# EAGLE library part TD-114-G-A (library SAMTEC-Txx_By_element14_Batch_1)
CONN RECEPTACLE, 2.54MM, THT VERT, 28WAY
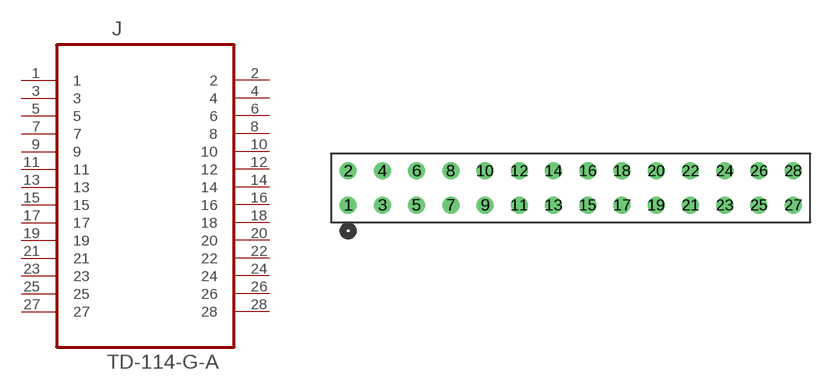
[diagram p22: symbol with the pads of SAMTEC_TD-114-G-A; footprint SAMTEC_TD-114-G-A]

Designator prefix J

## TD-114-G-A (MPN: TD-114-G-A; OC_FARNELL: 1668427; OC_NEWARK: 12P0252; PACKAGE: RECEPTACLE, 2.54MM, THT VERT,28WAY; SUPPLIER: SAMTEC)  [SAMTEC_TD-114-G-A]
1  1  pas
2  2  pas
3  3  pas
4  4  pas
5  5  pas
6  6  pas
7  7  pas
8  8  pas
9  9  pas
10  10  pas
11  11  pas
12  12  pas
13  13  pas
14  14  pas
15  15  pas
16  16  pas
17  17  pas
18  18  pas
19  19  pas
20  20  pas
21  21  pas
22  22  pas
23  23  pas
24  24  pas
25  25  pas
26  26  pas
27  27  pas
28  28  pas

## Footprint SAMTEC_TD-114-G-A (pad centres in mm)
drill 0.762: 1 -33.02,-2.54; 2 -33.02,0; 3 -30.48,-2.54; 4 -30.48,0; 5 -27.94,-2.54; 6 -27.94,0; 7 -25.4,-2.54; 8 -25.4,0; 9 -22.86,-2.54; 10 -22.86,0; 11 -20.32,-2.54; 12 -20.32,0; 13 -17.78,-2.54; 14 -17.78,0; 15 -15.24,-2.54; 16 -15.24,0; 17 -12.7,-2.54; 18 -12.7,0; 19 -10.16,-2.54; 20 -10.16,0; 21 -7.62,-2.54; 22 -7.62,0; 23 -5.08,-2.54; 24 -5.08,0; 25 -2.54,-2.54; 26 -2.54,0; 27 0,-2.54; 28 0,0